# EAGLE library part SI-40138 (library at91sam7x-ek)
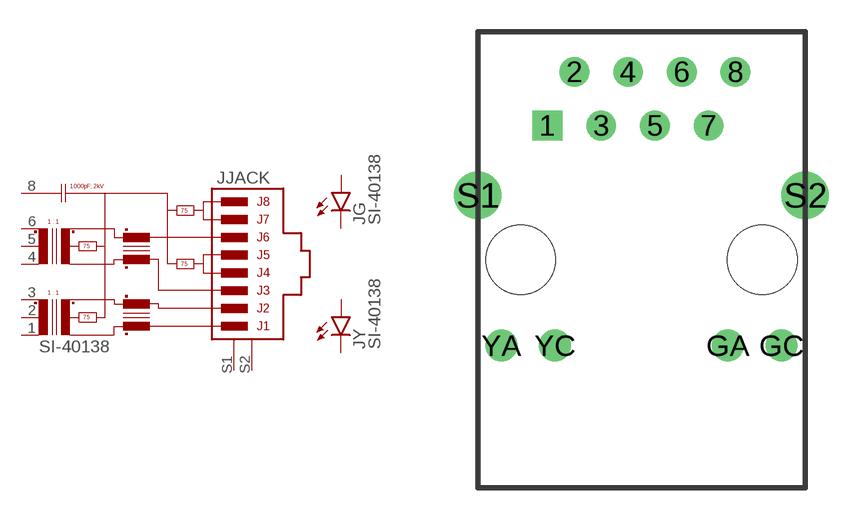
[diagram p2: symbol with the pads of SI-40138; footprint SI-40138]

Designator prefix J; gates JACK=SI-40138 Y=LED G=LED

## SI-40138  [SI-40138]
1  JACK:RD-  pas
2  JACK:CTR  pas
3  JACK:RD+  pas
4  JACK:TD-  pas
5  JACK:CTT  pas
6  JACK:TD+  pas
8  JACK:GND  pas
GA  G:A  pas
GC  G:C  pas
S1  JACK:S1  pas
S2  JACK:S2  pas
YA  Y:A  pas
YC  Y:C  pas

## Footprint SI-40138 (pad centres in mm)
drill 0.9 square: 1 -4.445,6.35
drill 0.9 round: 2 -3.175,8.89; 3 -1.905,6.35; 4 -0.635,8.89; 5 0.635,6.35; 6 1.905,8.89; 7 3.175,6.35; 8 4.445,8.89
drill 1 round: GA 4.089,-4.064; GC 6.629,-4.064; YA -6.629,-4.064; YC -4.089,-4.064
drill 1.5 round: S1 -7.747,3.048; S2 7.747,3.048
hole 3.3 at -5.715,0
hole 3.3 at 5.715,0